# Altium footprint library MAX86174AENE&plus_T.PcbLib: 1 footprints
Each footprint in its own frame and in the unit in brackets; x right, y up, seen from the top. Pads: shape width x height; smd on the part's side, far side on the other; paste and mask are expansions set on the pad; w line width, h text height; cw(c..) or ccw(c..) is an arc to the next point about the centre after c.
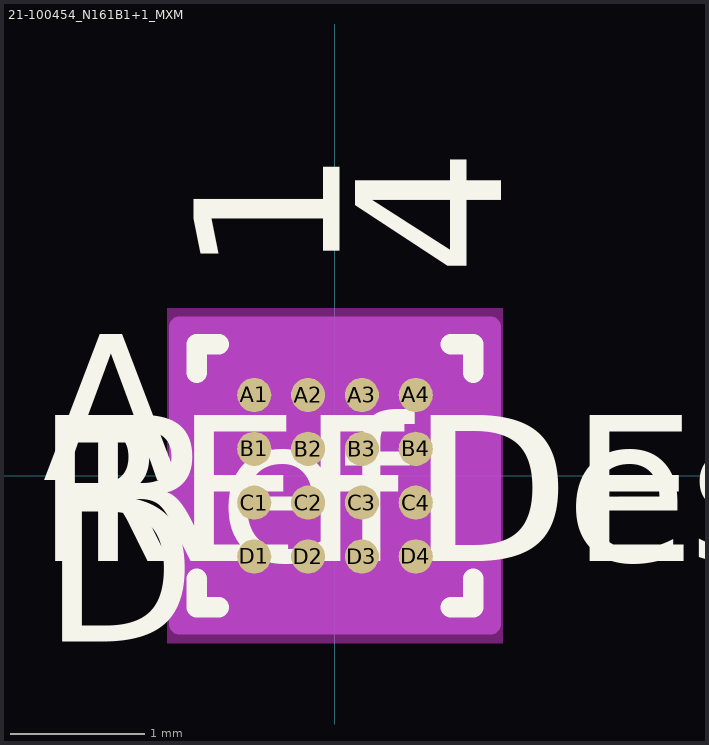
[diagram p0: the footprint, top view; thin cyan lines are the x and y axes]

## 21-100454_N161B1+1_MXM [mm]
pads (16):
  round 0.254 smd paste+0 mask+0: A1(-0.6,0.6) A2(-0.2,0.6) A3(0.2,0.6) A4(0.6,0.6) B1(-0.6,0.2) B2(-0.2,0.2) B3(0.2,0.2) B4(0.6,0.2) C1(-0.6,-0.2) C2(-0.2,-0.2) C3(0.2,-0.2) C4(0.6,-0.2) D1(-0.6,-0.6) D2(-0.2,-0.6) D3(0.2,-0.6) D4(0.6,-0.6)
Top Overlay:
  lines w0.152: -1.029,-0.766 -1.029,-0.978 -0.862,-0.978 ; -1.029,0.766 -1.029,0.978 -0.862,0.978 ; 0.862,-0.978 1.029,-0.978 1.029,-0.766 ; 0.862,0.978 1.029,0.978 1.029,0.766
  text "A" at -2.172,-0.035 h1.27
  text "D" at -2.172,-1.235 h1.27
  text "1" at 0.035,1.486 h1.27
  text "4" at 1.235,1.486 h1.27
  text "RefDes" at -1.905,-0.635 h1.27
  text "REFDES" at -2.222,-0.635 h1.27
Bottom Overlay:
  text "A" at -1.537,-0.035 h1.27
  text "D" at -1.537,-1.235 h1.27
  text "1" at -1.235,1.486 h1.27
  text "4" at -0.035,1.486 h1.27
Keep-Out Layer:
  region: -1.245,-1.245 -1.245,1.245 1.245,1.245 1.245,-1.245
Mechanical 13:
  lines w0.025: -0.902,0.651 -0.702,0.851 ; -0.902,-0.851 0.902,-0.851 0.902,0.851 -0.902,0.851 -0.902,-0.851
  text "A" at -2.172,-0.035 h1.27
  text "D" at -2.172,-1.235 h1.27
  text "1" at 0.035,1.486 h1.27
  text "4" at 1.235,1.486 h1.27
  text "RefDes2" at -2.222,-0.635 h1.27
Mechanical 15:
  region: 1.156,-1.105 -1.156,-1.105 -1.156,1.105 1.156,1.105
  lines w0.152: -1.156,-1.105 -1.156,1.105 1.156,1.105 1.156,-1.105 -1.156,-1.105
3D body "21-100454_N161B1+1_MXM.step": height 0.51, standoff 0, extent -0.902,-0.851 0.902,0.851